# EAGLE library part WH1602C (library X893)
http://www.winstar.com.tw/download.php?ProID=23
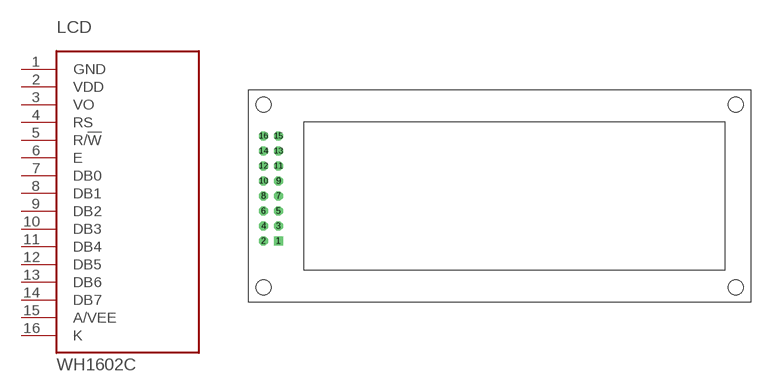
[diagram p135: symbol with the pads of WH1602C; footprint WH1602C]

Designator prefix LCD

## WH1602C-GTI  [WH1602C]
1  GND  sup
2  VDD  pas
3  VO  pas
4  RS  in
5  R/!W  in
6  E  in
7  DB0
8  DB1
9  DB2
10  DB3
11  DB4
12  DB5
13  DB6
14  DB7
15  A/VEE  pas
16  K  pas

## Footprint WH1602C (pad centres in mm)
drill 1 pad 1.5 square: 1 -37.46,-7.62
drill 1 pad 1.5 octagon: 2 -40,-7.62; 3 -37.46,-5.08; 4 -40,-5.08; 5 -37.46,-2.54; 6 -40,-2.54; 7 -37.46,0; 8 -40,0; 9 -37.46,2.54; 10 -40,2.54; 11 -37.46,5.08; 12 -40,5.08; 13 -37.46,7.62; 14 -40,7.62; 15 -37.46,10.16; 16 -40,10.16